# EAGLE library part ES9038Q2M (library ES9038Q2M)
Digital to Analog Converters - DAC Sabre 32 Reference Stereo low power audiophile DAC w/DOP Source: Datasheet
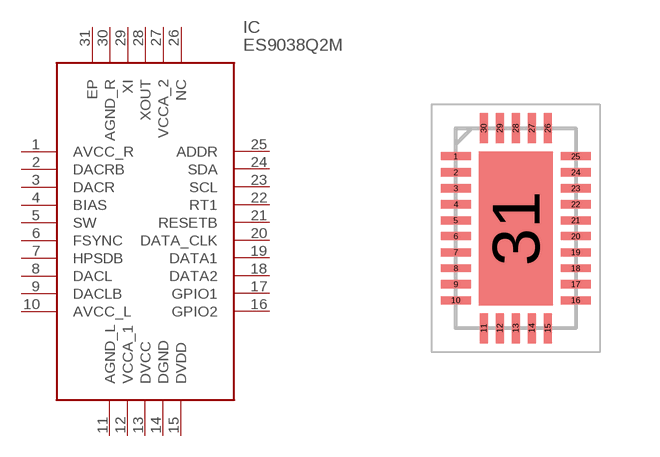
[diagram p0: symbol with the pads of QFN40P300X500X80-31N; footprint QFN40P300X500X80-31N]

Designator prefix IC

## ES9038Q2M (Description: Digital to Analog Converters - DAC Sabre 32 Reference Stereo low power audiophile DAC w/DOP; Height: 0.8mm; Manufacturer_Name: ESS Technology; Manufacturer_Part_Number: ES9038Q2M; Mouser_Part_Number: 460-ES9038Q2M; Mouser_Price-Stock: https://www.mouser.co.uk/ProductDetail/ESS-Technology/ES9038Q2M?qs=sPbYRqrBIVmdeUedURuuOw%3D%3D)  [QFN40P300X500X80-31N]
1  AVCC_R
2  DACRB
3  DACR
4  BIAS
5  SW
6  FSYNC
7  HPSDB
8  DACL
9  DACLB
10  AVCC_L
11  AGND_L
12  VCCA_1
13  DVCC
14  DGND
15  DVDD
16  GPIO2
17  GPIO1
18  DATA2
19  DATA1
20  DATA_CLK
21  RESETB
22  RT1
23  SCL
24  SDA
25  ADDR
26  NC  nc
27  VCCA_2
28  XOUT
29  XI
30  AGND_R
31  EP

## Footprint QFN40P300X500X80-31N (pad centres in mm)
QFN-30 Pin
smd 0.75 x 0.2: 1 -1.5,1.8; 2 -1.5,1.4; 3 -1.5,1; 4 -1.5,0.6; 5 -1.5,0.2; 6 -1.5,-0.2; 7 -1.5,-0.6; 8 -1.5,-1; 9 -1.5,-1.4; 10 -1.5,-1.8; 16 1.5,-1.8; 17 1.5,-1.4; 18 1.5,-1; 19 1.5,-0.6; 20 1.5,-0.2; 21 1.5,0.2; 22 1.5,0.6; 23 1.5,1; 24 1.5,1.4; 25 1.5,1.8
smd 0.2 x 0.75: 11 -0.8,-2.5; 12 -0.4,-2.5; 13 0,-2.5; 14 0.4,-2.5; 15 0.8,-2.5; 26 0.8,2.5; 27 0.4,2.5; 28 0,2.5; 29 -0.4,2.5; 30 -0.8,2.5
smd 1.85 x 3.85: 31 0,0